# Altium schematic symbol library RVar.SchLib: 1 symbol
Pins are listed as number, name and electrical type; pins without a type are passive.

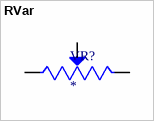
[diagram p0: symbol RVar]

## RVar
designator VR?
Potentiometers, multi, Resistors, trimmer, cermet, potentiometers, turn, sealed, Potentiometers and Accessories, Pass...; MP: 3296W-OT1-204; MF: Bourns; SnapEDA_Link: https://www.snapeda.com/parts/3296W-OT1-204/Bourns/view-part/?ref=snap; Package: SOT-23-5 Bourns; Check_prices: https://www.snapeda.com/parts/3296W-OT1-204/Bourns/view-part/?ref=eda; Price: None; Value: *; Availability: Not in stock
footprint TRIM_3296W-OT1-204
pins: 1 CCW, 2 WIPER, 3 CW